# Altium footprint library DIO_PDS360-13.PcbLib: 2 footprints
Each footprint in its own frame and in the unit in brackets; x right, y up, seen from the top. Pads: shape width x height; smd on the part's side, far side on the other; paste and mask are expansions set on the pad; w line width, h text height; cw(c..) or ccw(c..) is an arc to the next point about the centre after c.
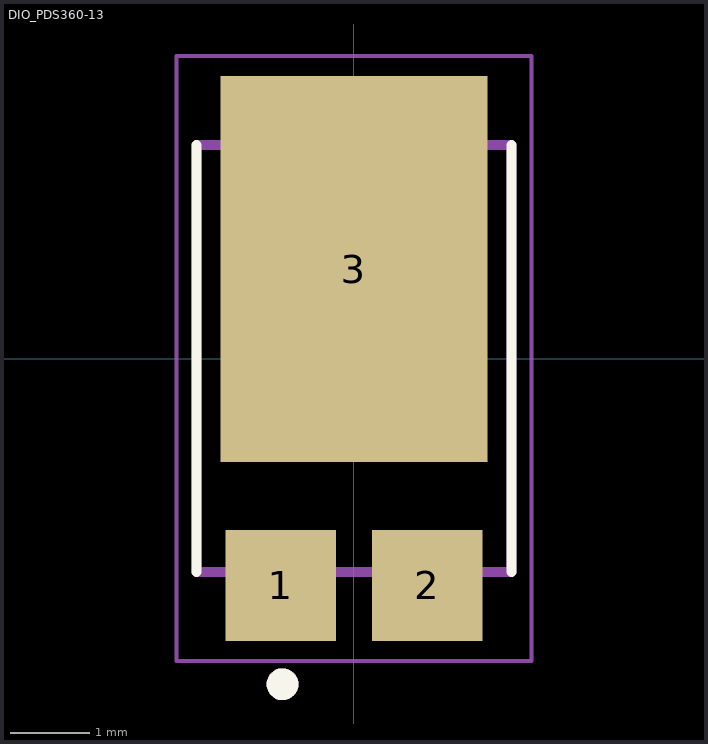
[diagram p0: the footprints below, top view; thin cyan lines are the x and y axes]

## DIO_PDS360-13 [mm]
pads (3):
  rect 1.39x1.4 smd: 1(-0.92,-2.856) 2(0.92,-2.856)
  rect 3.36x4.86 smd: 3(0,1.126)
Top Overlay:
  circle w0.2: c-0.9,-4.1 r0.1
  lines w0.127: -1.985,-2.685 -1.985,2.685 ; 1.985,-2.685 1.985,2.685
Top Paste:
  region: -1.06,2.666 1.06,2.666 1.06,-0.414 -1.06,-0.414
Mechanical 4:
  circle w0.2: c-0.9,-4.1 r0.1
  circle w0.2: c-0.9,-4.1 r0.1
  lines w0.127: -1.985,-2.685 -1.985,2.685 ; -1.985,-2.685 1.985,-2.685 ; -1.985,-2.685 -1.985,2.685 ; -1.985,-2.685 1.985,-2.685 ; -1.985,2.685 1.985,2.685 ; -1.985,2.685 1.985,2.685 ; 1.985,-2.685 1.985,2.685 ; 1.985,-2.685 1.985,2.685
Mechanical 16:
  lines w0.05: -2.235,-3.81 2.235,-3.81 2.235,3.81 -2.235,3.81 -2.235,-3.81

## PCBComponent_1 [mm]